# Altium integrated library Linear Technology Power Management System Supervisor, Monitor and Control.IntLib: 1611 symbols (part 91 of 100)
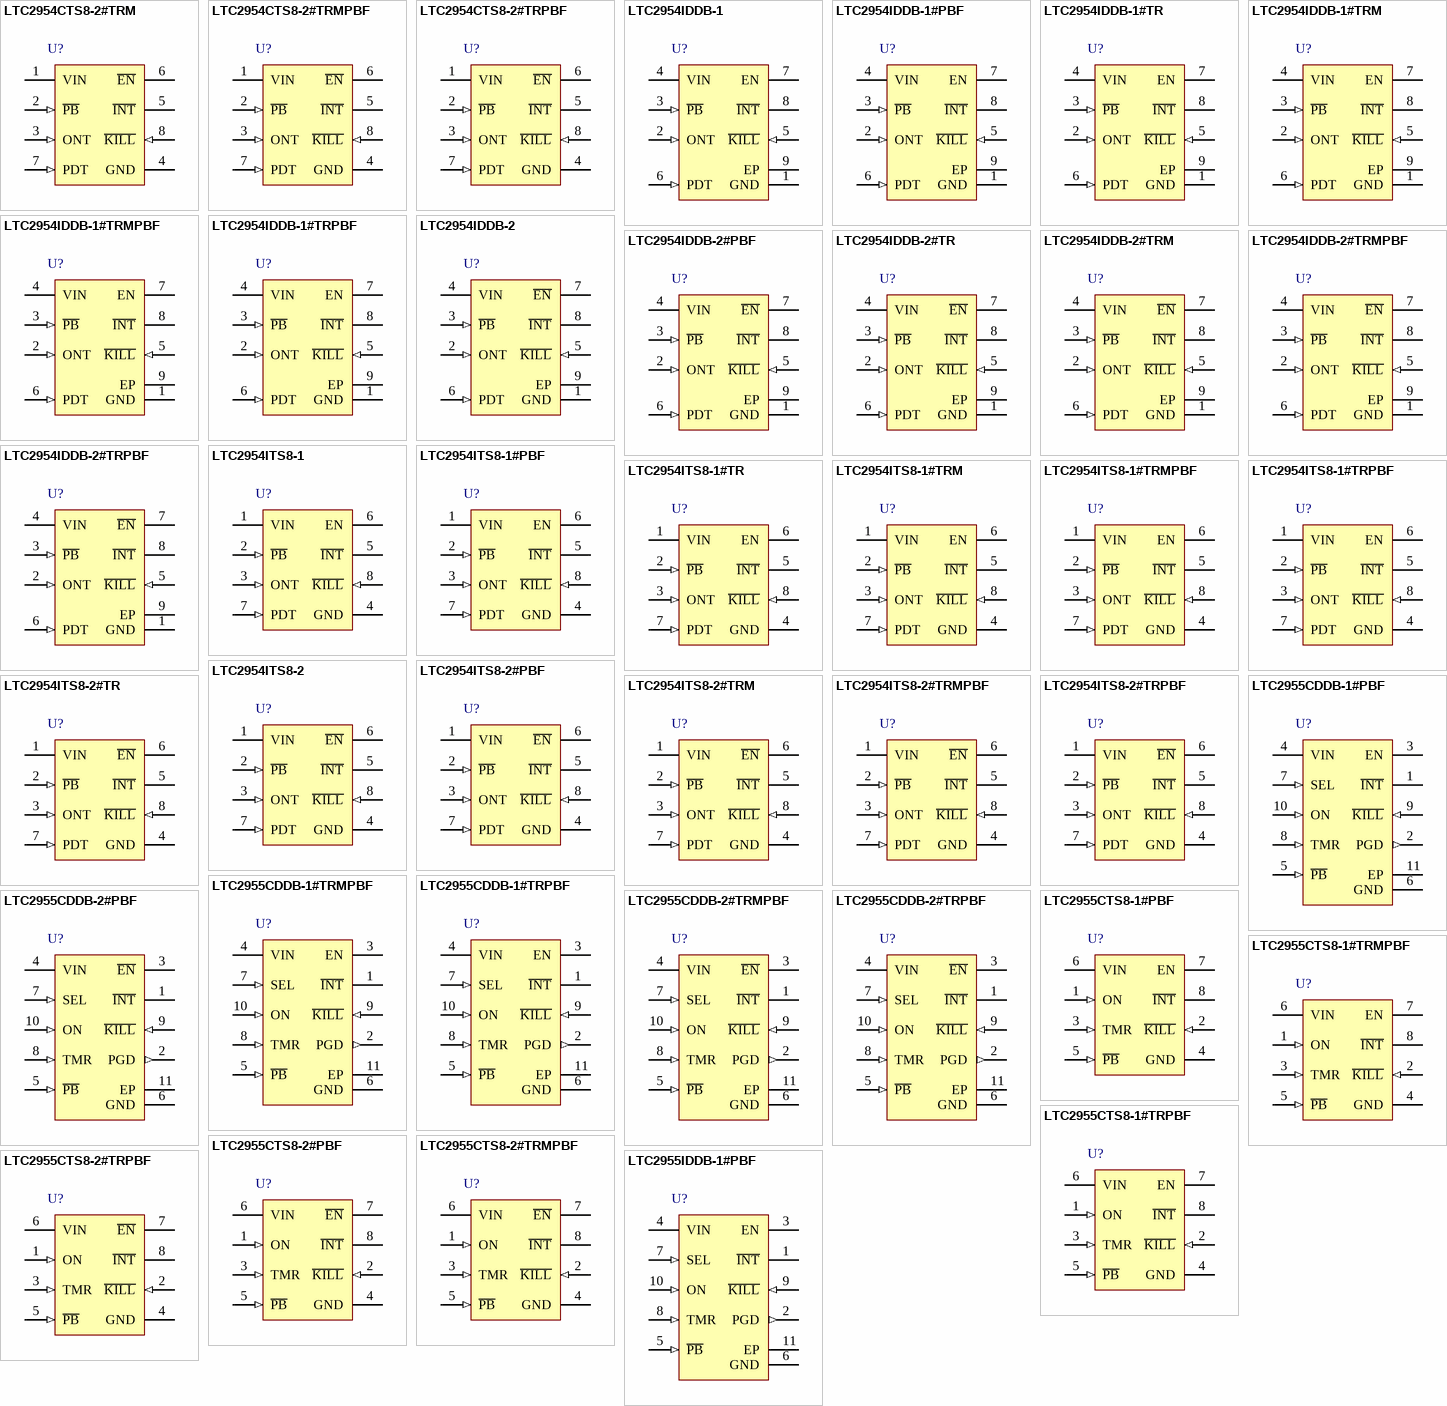
[diagram p135: symbols LTC2954CTS8-2#TRM to LTC2955IDDB-1#PBF]

## LTC2955CTS8-2#PBF
designator U?
Pushbutton On / Off Controller with Automatic Turn-On, 8-pin SOT23 (TS8-8), 0 to 70 degC, Pb-Free; Manufacturer: Linear Technology; PartNumber: LTC2955CTS8-2#PBF; Number of Supplies(#): 1; PackageVersion: Rev. A, 08/2010; PackageReference: TS8-8; PackageDescription: 8-Pin Plastic TSOT-23, Body 2.9 x 1.63 mm, Pitch 0.65 mm; RoHS: TRUE; Mounting Technology: Surface Mount; Code_JEDEC: MO-193; ComponentLink1Description: Manufacturer URL; ComponentLink1URL: http://www.linear.com/; ComponentLink2Description: Datasheet; ComponentLink2URL: http://cds.linear.com/docs/en/datasheet/2955f.pdf; ComponentLink3Description: Package Specification; ComponentLink3URL: http://cds.linear.com/docs/en/packaging/SOT_8_05-08-1637.pdf
footprint LT-TS8-8-TSOT-23_V (SOT23, 8-Leads, Body 2.9x1.75mm, Pitch 0.65mm)
pins: 1 ON (in) "Monitor Input. Connect this pin to an external resistive divider from the monitored voltage. This allows automatic system turn-on when the monitored voltage transitions high. For the DFN part, if the SEL pin is tied high, it (See Datasheet)", 2 ~{KILL} (in) "Kill Input. A low at K\I\L\L\ releases the enable output (EN/E\N\). This pin can be driven by the microprocessor or it can be used as a voltage monitor input. Tie to the system power supply or an external voltage of 1.2V~5V (See Datasheet)", 3 TMR (in) "Timer Pin. A capacitor to ground determines the additional time (5.2 seconds/uF) beyond the default 64ms that the pushbutton must be held low before immediately releasing the EN/E\N\ and I\N\T\ outputs. The turn-off debounce (See Datasheet)", 4 GND (power) "Device Ground.", 5 ~{PB} (in) "Pushbutton Input. This is an active low input with a 900k pull-up to an internal LDO. Connect one terminal of the pushbutton to this pin and connect the other terminal of the pushbutton to GND. The pin may be left open if (See Datasheet)", 6 VIN (power) "Power Supply Input. For > 20V applications, connect VIN to the power source through a 1k resistor and bypass VIN to GND with a 10nF low ESR capacitor.", 7 ~{EN} (oc) "Inverted Enable Output (LTC2955-2). E\N\ is an active low output to control the turn-on/off of the system power. It may drive a voltage regulator's active low enable input, or it may drive the gate of a P-channel MOSFET(See Datasheet)", 8 ~{INT} (oc) "Open Drain Interrupt Output. Connect this pin to the interrupt input of the system with a pull-up resistor to the system supply. The LTC2955 asserts the I\N\T\ pin low when it receives the turn-off command from the (See Datasheet)"

## LTC2955CTS8-2#TRMPBF
designator U?
Pushbutton On / Off Controller with Automatic Turn-On, 8-pin SOT23 (TS8-8), 0 to 70 degC, Pb-Free, Mini Tape and Reel; Manufacturer: Linear Technology; PartNumber: LTC2955CTS8-2#TRMPBF; Number of Supplies(#): 1; PackageVersion: Rev. A, 08/2010; PackageReference: TS8-8; PackageDescription: 8-Pin Plastic TSOT-23, Body 2.9 x 1.63 mm, Pitch 0.65 mm; Supplier 1: Digi-Key; Supplier Part Number 1: LTC2955CTS8-2#TRMPBFTR-ND; Supplier 2: Digi-Key; Supplier Part Number 2: LTC2955CTS8-2#TRMPBFCT-ND; Supplier 3: Digi-Key; Supplier Part Number 3: LTC2955CTS8-2#TRMPBFDKR-ND; Supplier 4: Farnell; Supplier Part Number 4: 2097940; Supplier 5: Newark; Supplier Part Number 5: 93T2008; Packing: Mini Tape and Reel; RoHS: TRUE; Mounting Technology: Surface Mount; Code_JEDEC: MO-193; ComponentLink1Description: Manufacturer URL; ComponentLink1URL: http://www.linear.com/; ComponentLink2Description: Datasheet; ComponentLink2URL: http://cds.linear.com/docs/en/datasheet/2955f.pdf; ComponentLink3Description: Package Specification; ComponentLink3URL: http://cds.linear.com/docs/en/packaging/SOT_8_05-08-1637.pdf
footprint LT-TS8-8-TSOT-23_V (SOT23, 8-Leads, Body 2.9x1.75mm, Pitch 0.65mm)
pins: 1 ON (in) "Monitor Input. Connect this pin to an external resistive divider from the monitored voltage. This allows automatic system turn-on when the monitored voltage transitions high. For the DFN part, if the SEL pin is tied high, it (See Datasheet)", 2 ~{KILL} (in) "Kill Input. A low at K\I\L\L\ releases the enable output (EN/E\N\). This pin can be driven by the microprocessor or it can be used as a voltage monitor input. Tie to the system power supply or an external voltage of 1.2V~5V (See Datasheet)", 3 TMR (in) "Timer Pin. A capacitor to ground determines the additional time (5.2 seconds/uF) beyond the default 64ms that the pushbutton must be held low before immediately releasing the EN/E\N\ and I\N\T\ outputs. The turn-off debounce (See Datasheet)", 4 GND (power) "Device Ground.", 5 ~{PB} (in) "Pushbutton Input. This is an active low input with a 900k pull-up to an internal LDO. Connect one terminal of the pushbutton to this pin and connect the other terminal of the pushbutton to GND. The pin may be left open if (See Datasheet)", 6 VIN (power) "Power Supply Input. For > 20V applications, connect VIN to the power source through a 1k resistor and bypass VIN to GND with a 10nF low ESR capacitor.", 7 ~{EN} (oc) "Inverted Enable Output (LTC2955-2). E\N\ is an active low output to control the turn-on/off of the system power. It may drive a voltage regulator's active low enable input, or it may drive the gate of a P-channel MOSFET(See Datasheet)", 8 ~{INT} (oc) "Open Drain Interrupt Output. Connect this pin to the interrupt input of the system with a pull-up resistor to the system supply. The LTC2955 asserts the I\N\T\ pin low when it receives the turn-off command from the (See Datasheet)"

## LTC2955CTS8-2#TRPBF
designator U?
Pushbutton On / Off Controller with Automatic Turn-On, 8-pin SOT23 (TS8-8), 0 to 70 degC, Pb-Free, Tape and Reel; Manufacturer: Linear Technology; PartNumber: LTC2955CTS8-2#TRPBF; Number of Supplies(#): 1; PackageVersion: Rev. A, 08/2010; PackageReference: TS8-8; PackageDescription: 8-Pin Plastic TSOT-23, Body 2.9 x 1.63 mm, Pitch 0.65 mm; Supplier 1: Digi-Key; Supplier Part Number 1: LTC2955CTS8-2#TRPBF-ND; Supplier 2: Newark; Supplier Part Number 2: 87T0995; Packing: Tape and Reel; RoHS: TRUE; Mounting Technology: Surface Mount; Code_JEDEC: MO-193; ComponentLink1Description: Manufacturer URL; ComponentLink1URL: http://www.linear.com/; ComponentLink2Description: Datasheet; ComponentLink2URL: http://cds.linear.com/docs/en/datasheet/2955f.pdf; ComponentLink3Description: Package Specification; ComponentLink3URL: http://cds.linear.com/docs/en/packaging/SOT_8_05-08-1637.pdf
footprint LT-TS8-8-TSOT-23_V (SOT23, 8-Leads, Body 2.9x1.75mm, Pitch 0.65mm)
pins: 1 ON (in) "Monitor Input. Connect this pin to an external resistive divider from the monitored voltage. This allows automatic system turn-on when the monitored voltage transitions high. For the DFN part, if the SEL pin is tied high, it (See Datasheet)", 2 ~{KILL} (in) "Kill Input. A low at K\I\L\L\ releases the enable output (EN/E\N\). This pin can be driven by the microprocessor or it can be used as a voltage monitor input. Tie to the system power supply or an external voltage of 1.2V~5V (See Datasheet)", 3 TMR (in) "Timer Pin. A capacitor to ground determines the additional time (5.2 seconds/uF) beyond the default 64ms that the pushbutton must be held low before immediately releasing the EN/E\N\ and I\N\T\ outputs. The turn-off debounce (See Datasheet)", 4 GND (power) "Device Ground.", 5 ~{PB} (in) "Pushbutton Input. This is an active low input with a 900k pull-up to an internal LDO. Connect one terminal of the pushbutton to this pin and connect the other terminal of the pushbutton to GND. The pin may be left open if (See Datasheet)", 6 VIN (power) "Power Supply Input. For > 20V applications, connect VIN to the power source through a 1k resistor and bypass VIN to GND with a 10nF low ESR capacitor.", 7 ~{EN} (oc) "Inverted Enable Output (LTC2955-2). E\N\ is an active low output to control the turn-on/off of the system power. It may drive a voltage regulator's active low enable input, or it may drive the gate of a P-channel MOSFET(See Datasheet)", 8 ~{INT} (oc) "Open Drain Interrupt Output. Connect this pin to the interrupt input of the system with a pull-up resistor to the system supply. The LTC2955 asserts the I\N\T\ pin low when it receives the turn-off command from the (See Datasheet)"

## LTC2955IDDB-1#PBF
designator U?
Pushbutton On / Off Controller with Automatic Turn-On, 10-pin SON (DDB10), -40 to 85 degC, Pb-Free; Manufacturer: Linear Technology; PartNumber: LTC2955IDDB-1#PBF; Number of Supplies(#): 1; PackageVersion: Rev. Ø, 06/2010; PackageReference: DDB10; PackageDescription: 10-Pin Plastic DFN, Body 3 x 2 mm, Pitch 0.5 mm; RoHS: TRUE; Mounting Technology: Surface Mount; Code_JEDEC: MO-229; ComponentLink1Description: Manufacturer URL; ComponentLink1URL: http://www.linear.com/; ComponentLink2Description: Datasheet; ComponentLink2URL: http://cds.linear.com/docs/en/datasheet/2955f.pdf; ComponentLink3Description: Package Specification; ComponentLink3URL: http://cds.linear.com/docs/en/packaging/DFN_10_05-08-1722.pdf
footprint LT-DDB-10_V (SON, 10-Leads, Body 3x2mm, Pitch 0.5mm, Thermal Pad 2.39x0.64mm)
pins: 1 ~{INT} (oc) "Open Drain Interrupt Output. Connect this pin to the interrupt input of the system with a pull-up resistor to the system supply. The LTC2955 asserts the I\N\T\ pin low when it receives the turn-off command from the (See Datasheet)", 2 PGD (out) "ON Status Output. A high on this pin indicates that the voltage at the ON pin is above the input threshold of 0.8V. This pin can be used as a system input to inform the system whether the turn-on was triggered by the ON pin (See Datasheet)", 3 EN (oc) "Enable Output (LTC2955-1). EN is an active high output to control the turn-on/off of the system power. Connect this pin to the RUN or S\H\U\T\D\O\W\N\ pin of the voltage regulator. The LTC2955 asserts EN high when the (See Datasheet)", 4 VIN (power) "Power Supply Input. For > 20V applications, connect VIN to the power source through a 1k resistor and bypass VIN to GND with a 10nF low ESR capacitor.", 5 ~{PB} (in) "Pushbutton Input. This is an active low input with a 900k pull-up to an internal LDO. Connect one terminal of the pushbutton to this pin and connect the other terminal of the pushbutton to GND. The pin may be left open if (See Datasheet)", 6 GND (power) "Device Ground.", 7 SEL (in) "Mode Select Input. Connect SEL to GND to block the ON pin falling edge from activating system turn-off. Connect SEL to VIN to allow both the ON pin rising and falling edges to activate system turn-on and turn-off (See Datasheet)", 8 TMR (in) "Timer Pin. A capacitor to ground determines the additional time (5.2 seconds/uF) beyond the default 64ms that the pushbutton must be held low before immediately releasing the EN/E\N\ and I\N\T\ outputs. The turn-off debounce (See Datasheet)", 9 ~{KILL} (in) "Kill Input. A low at K\I\L\L\ releases the enable output (EN/E\N\). This pin can be driven by the microprocessor or it can be used as a voltage monitor input. Tie to the system power supply or an external voltage of 1.2V~5V (See Datasheet)", 10 ON (in) "Monitor Input. Connect this pin to an external resistive divider from the monitored voltage. This allows automatic system turn-on when the monitored voltage transitions high. For the DFN part, if the SEL pin is tied high, it (See Datasheet)", 11 EP (power) "Exposed pad. Leave open or connect to device ground."

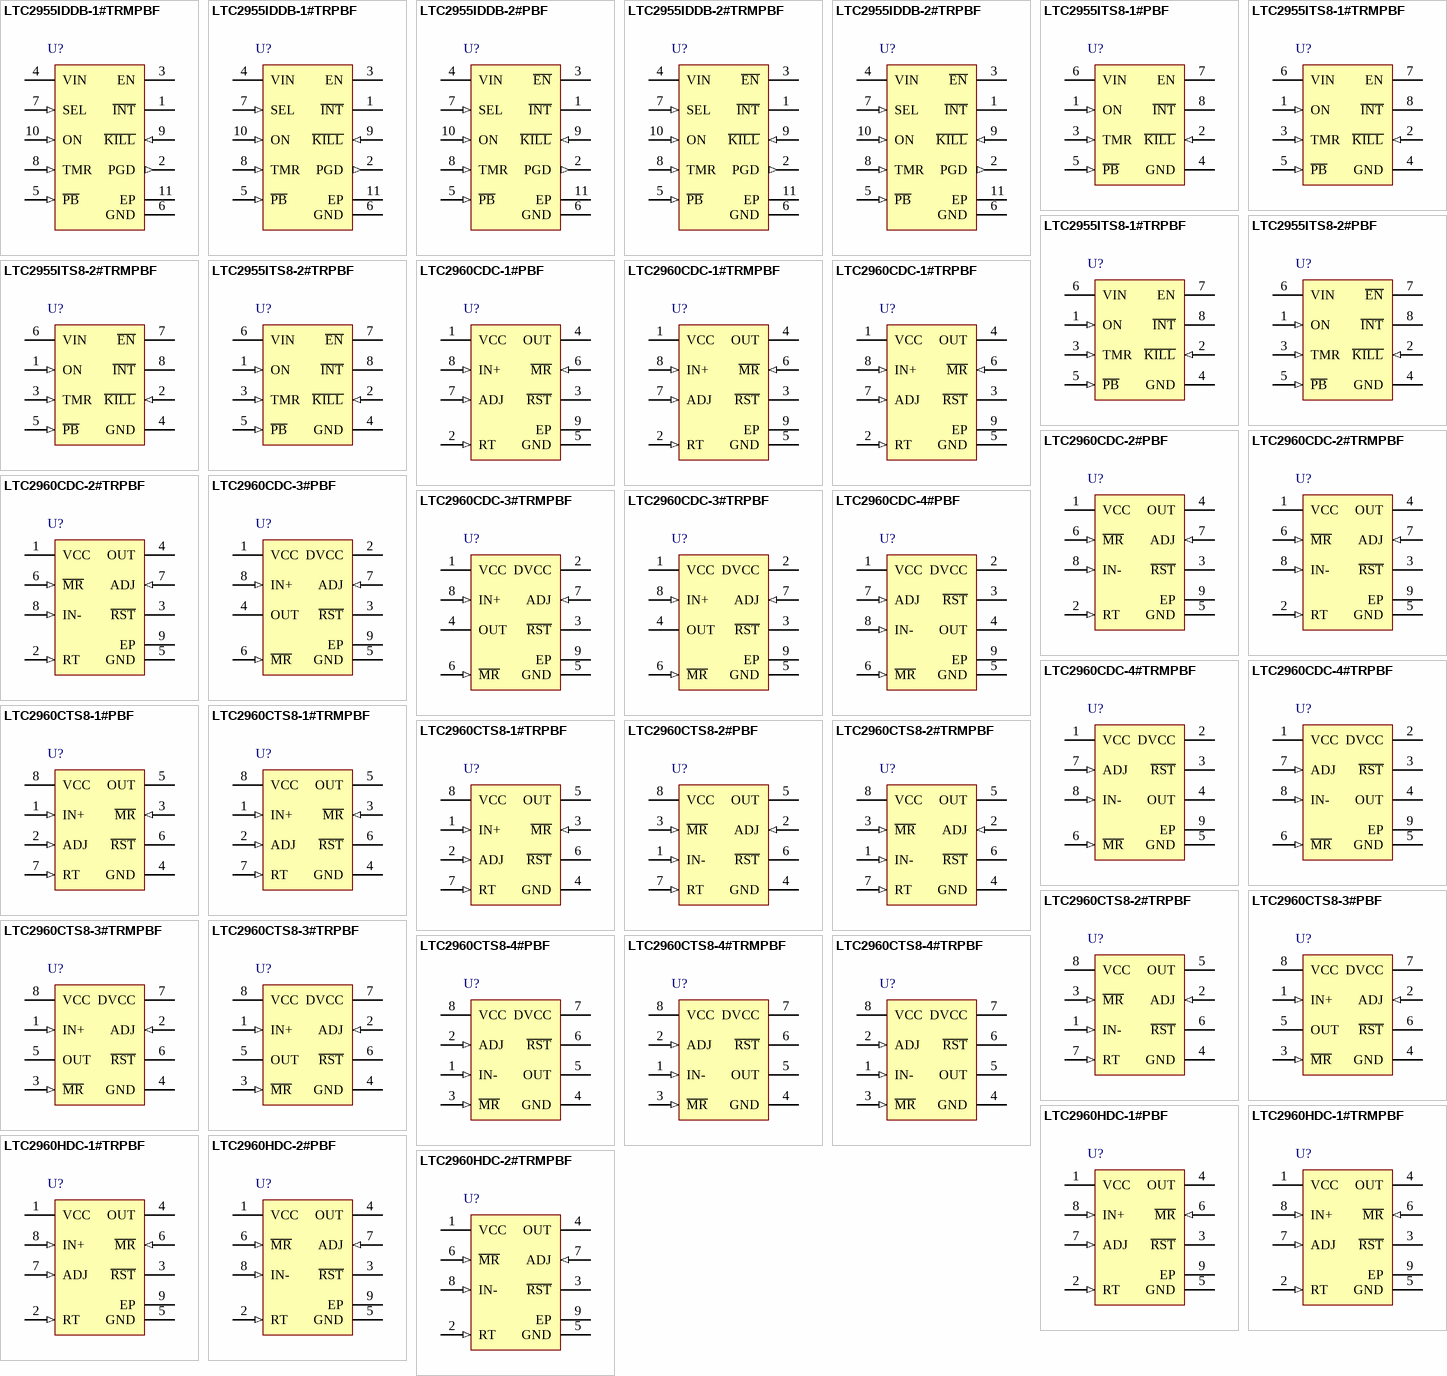
[diagram p40: symbols LTC2955IDDB-1#TRMPBF to LTC2960HDC-2#TRMPBF]

## LTC2955IDDB-1#TRMPBF
designator U?
Pushbutton On / Off Controller with Automatic Turn-On, 10-pin SON (DDB10), -40 to 85 degC, Pb-Free, Mini Tape and Reel; Manufacturer: Linear Technology; PartNumber: LTC2955IDDB-1#TRMPBF; Number of Supplies(#): 1; PackageVersion: Rev. Ø, 06/2010; PackageReference: DDB10; PackageDescription: 10-Pin Plastic DFN, Body 3 x 2 mm, Pitch 0.5 mm; Supplier 1: Digi-Key; Supplier Part Number 1: LTC2955IDDB-1#TRMPBFTR-ND; Supplier 2: Digi-Key; Supplier Part Number 2: LTC2955IDDB-1#TRMPBFCT-ND; Supplier 3: Digi-Key; Supplier Part Number 3: LTC2955IDDB-1#TRMPBFDKR-ND; Supplier 4: Farnell; Supplier Part Number 4: 2097937; Supplier 5: Newark; Supplier Part Number 5: 93T2009; Supplier 6: Newark; Supplier Part Number 6: 87T0996; Packing: Mini Tape and Reel; RoHS: TRUE; Mounting Technology: Surface Mount; Code_JEDEC: MO-229; ComponentLink1Description: Manufacturer URL; ComponentLink1URL: http://www.linear.com/; ComponentLink2Description: Datasheet; ComponentLink2URL: http://cds.linear.com/docs/en/datasheet/2955f.pdf; ComponentLink3Description: Package Specification; ComponentLink3URL: http://cds.linear.com/docs/en/packaging/DFN_10_05-08-1722.pdf
footprint LT-DDB-10_V (SON, 10-Leads, Body 3x2mm, Pitch 0.5mm, Thermal Pad 2.39x0.64mm)
pins: 1 ~{INT} (oc) "Open Drain Interrupt Output. Connect this pin to the interrupt input of the system with a pull-up resistor to the system supply. The LTC2955 asserts the I\N\T\ pin low when it receives the turn-off command from the (See Datasheet)", 2 PGD (out) "ON Status Output. A high on this pin indicates that the voltage at the ON pin is above the input threshold of 0.8V. This pin can be used as a system input to inform the system whether the turn-on was triggered by the ON pin (See Datasheet)", 3 EN (oc) "Enable Output (LTC2955-1). EN is an active high output to control the turn-on/off of the system power. Connect this pin to the RUN or S\H\U\T\D\O\W\N\ pin of the voltage regulator. The LTC2955 asserts EN high when the (See Datasheet)", 4 VIN (power) "Power Supply Input. For > 20V applications, connect VIN to the power source through a 1k resistor and bypass VIN to GND with a 10nF low ESR capacitor.", 5 ~{PB} (in) "Pushbutton Input. This is an active low input with a 900k pull-up to an internal LDO. Connect one terminal of the pushbutton to this pin and connect the other terminal of the pushbutton to GND. The pin may be left open if (See Datasheet)", 6 GND (power) "Device Ground.", 7 SEL (in) "Mode Select Input. Connect SEL to GND to block the ON pin falling edge from activating system turn-off. Connect SEL to VIN to allow both the ON pin rising and falling edges to activate system turn-on and turn-off (See Datasheet)", 8 TMR (in) "Timer Pin. A capacitor to ground determines the additional time (5.2 seconds/uF) beyond the default 64ms that the pushbutton must be held low before immediately releasing the EN/E\N\ and I\N\T\ outputs. The turn-off debounce (See Datasheet)", 9 ~{KILL} (in) "Kill Input. A low at K\I\L\L\ releases the enable output (EN/E\N\). This pin can be driven by the microprocessor or it can be used as a voltage monitor input. Tie to the system power supply or an external voltage of 1.2V~5V (See Datasheet)", 10 ON (in) "Monitor Input. Connect this pin to an external resistive divider from the monitored voltage. This allows automatic system turn-on when the monitored voltage transitions high. For the DFN part, if the SEL pin is tied high, it (See Datasheet)", 11 EP (power) "Exposed pad. Leave open or connect to device ground."

## LTC2955IDDB-1#TRPBF
designator U?
Pushbutton On / Off Controller with Automatic Turn-On, 10-pin SON (DDB10), -40 to 85 degC, Pb-Free, Tape and Reel; Manufacturer: Linear Technology; PartNumber: LTC2955IDDB-1#TRPBF; Number of Supplies(#): 1; PackageVersion: Rev. Ø, 06/2010; PackageReference: DDB10; PackageDescription: 10-Pin Plastic DFN, Body 3 x 2 mm, Pitch 0.5 mm; Supplier 1: Digi-Key; Supplier Part Number 1: LTC2955IDDB-1#TRPBF-ND; Packing: Tape and Reel; RoHS: TRUE; Mounting Technology: Surface Mount; Code_JEDEC: MO-229; ComponentLink1Description: Manufacturer URL; ComponentLink1URL: http://www.linear.com/; ComponentLink2Description: Datasheet; ComponentLink2URL: http://cds.linear.com/docs/en/datasheet/2955f.pdf; ComponentLink3Description: Package Specification; ComponentLink3URL: http://cds.linear.com/docs/en/packaging/DFN_10_05-08-1722.pdf
footprint LT-DDB-10_V (SON, 10-Leads, Body 3x2mm, Pitch 0.5mm, Thermal Pad 2.39x0.64mm)
pins: 1 ~{INT} (oc) "Open Drain Interrupt Output. Connect this pin to the interrupt input of the system with a pull-up resistor to the system supply. The LTC2955 asserts the I\N\T\ pin low when it receives the turn-off command from the (See Datasheet)", 2 PGD (out) "ON Status Output. A high on this pin indicates that the voltage at the ON pin is above the input threshold of 0.8V. This pin can be used as a system input to inform the system whether the turn-on was triggered by the ON pin (See Datasheet)", 3 EN (oc) "Enable Output (LTC2955-1). EN is an active high output to control the turn-on/off of the system power. Connect this pin to the RUN or S\H\U\T\D\O\W\N\ pin of the voltage regulator. The LTC2955 asserts EN high when the (See Datasheet)", 4 VIN (power) "Power Supply Input. For > 20V applications, connect VIN to the power source through a 1k resistor and bypass VIN to GND with a 10nF low ESR capacitor.", 5 ~{PB} (in) "Pushbutton Input. This is an active low input with a 900k pull-up to an internal LDO. Connect one terminal of the pushbutton to this pin and connect the other terminal of the pushbutton to GND. The pin may be left open if (See Datasheet)", 6 GND (power) "Device Ground.", 7 SEL (in) "Mode Select Input. Connect SEL to GND to block the ON pin falling edge from activating system turn-off. Connect SEL to VIN to allow both the ON pin rising and falling edges to activate system turn-on and turn-off (See Datasheet)", 8 TMR (in) "Timer Pin. A capacitor to ground determines the additional time (5.2 seconds/uF) beyond the default 64ms that the pushbutton must be held low before immediately releasing the EN/E\N\ and I\N\T\ outputs. The turn-off debounce (See Datasheet)", 9 ~{KILL} (in) "Kill Input. A low at K\I\L\L\ releases the enable output (EN/E\N\). This pin can be driven by the microprocessor or it can be used as a voltage monitor input. Tie to the system power supply or an external voltage of 1.2V~5V (See Datasheet)", 10 ON (in) "Monitor Input. Connect this pin to an external resistive divider from the monitored voltage. This allows automatic system turn-on when the monitored voltage transitions high. For the DFN part, if the SEL pin is tied high, it (See Datasheet)", 11 EP (power) "Exposed pad. Leave open or connect to device ground."

## LTC2955IDDB-2#PBF
designator U?
Pushbutton On / Off Controller with Automatic Turn-On, 10-pin SON (DDB10), -40 to 85 degC, Pb-Free; Manufacturer: Linear Technology; PartNumber: LTC2955IDDB-2#PBF; Number of Supplies(#): 1; PackageVersion: Rev. Ø, 06/2010; PackageReference: DDB10; PackageDescription: 10-Pin Plastic DFN, Body 3 x 2 mm, Pitch 0.5 mm; RoHS: TRUE; Mounting Technology: Surface Mount; Code_JEDEC: MO-229; ComponentLink1Description: Manufacturer URL; ComponentLink1URL: http://www.linear.com/; ComponentLink2Description: Datasheet; ComponentLink2URL: http://cds.linear.com/docs/en/datasheet/2955f.pdf; ComponentLink3Description: Package Specification; ComponentLink3URL: http://cds.linear.com/docs/en/packaging/DFN_10_05-08-1722.pdf
footprint LT-DDB-10_V (SON, 10-Leads, Body 3x2mm, Pitch 0.5mm, Thermal Pad 2.39x0.64mm)
pins: 1 ~{INT} (oc) "Open Drain Interrupt Output. Connect this pin to the interrupt input of the system with a pull-up resistor to the system supply. The LTC2955 asserts the I\N\T\ pin low when it receives the turn-off command from the (See Datasheet)", 2 PGD (out) "ON Status Output. A high on this pin indicates that the voltage at the ON pin is above the input threshold of 0.8V. This pin can be used as a system input to inform the system whether the turn-on was triggered by the ON pin (See Datasheet)", 3 ~{EN} (oc) "Inverted Enable Output (LTC2955-2). E\N\ is an active low output to control the turn-on/off of the system power. It may drive a voltage regulator's active low enable input, or it may drive the gate of a P-channel MOSFET(See Datasheet)", 4 VIN (power) "Power Supply Input. For > 20V applications, connect VIN to the power source through a 1k resistor and bypass VIN to GND with a 10nF low ESR capacitor.", 5 ~{PB} (in) "Pushbutton Input. This is an active low input with a 900k pull-up to an internal LDO. Connect one terminal of the pushbutton to this pin and connect the other terminal of the pushbutton to GND. The pin may be left open if (See Datasheet)", 6 GND (power) "Device Ground.", 7 SEL (in) "Mode Select Input. Connect SEL to GND to block the ON pin falling edge from activating system turn-off. Connect SEL to VIN to allow both the ON pin rising and falling edges to activate system turn-on and turn-off (See Datasheet)", 8 TMR (in) "Timer Pin. A capacitor to ground determines the additional time (5.2 seconds/uF) beyond the default 64ms that the pushbutton must be held low before immediately releasing the EN/E\N\ and I\N\T\ outputs. The turn-off debounce (See Datasheet)", 9 ~{KILL} (in) "Kill Input. A low at K\I\L\L\ releases the enable output (EN/E\N\). This pin can be driven by the microprocessor or it can be used as a voltage monitor input. Tie to the system power supply or an external voltage of 1.2V~5V (See Datasheet)", 10 ON (in) "Monitor Input. Connect this pin to an external resistive divider from the monitored voltage. This allows automatic system turn-on when the monitored voltage transitions high. For the DFN part, if the SEL pin is tied high, it (See Datasheet)", 11 EP (power) "Exposed pad. Leave open or connect to device ground."

## LTC2955IDDB-2#TRMPBF
designator U?
Pushbutton On / Off Controller with Automatic Turn-On, 10-pin SON (DDB10), -40 to 85 degC, Pb-Free, Mini Tape and Reel; Manufacturer: Linear Technology; PartNumber: LTC2955IDDB-2#TRMPBF; Number of Supplies(#): 1; PackageVersion: Rev. Ø, 06/2010; PackageReference: DDB10; PackageDescription: 10-Pin Plastic DFN, Body 3 x 2 mm, Pitch 0.5 mm; Supplier 1: Digi-Key; Supplier Part Number 1: LTC2955IDDB-2#TRMPBFTR-ND; Supplier 2: Digi-Key; Supplier Part Number 2: LTC2955IDDB-2#TRMPBFCT-ND; Supplier 3: Digi-Key; Supplier Part Number 3: LTC2955IDDB-2#TRMPBFDKR-ND; Supplier 4: Farnell; Supplier Part Number 4: 2097938; Supplier 5: Newark; Supplier Part Number 5: 93T2010; Packing: Mini Tape and Reel; RoHS: TRUE; Mounting Technology: Surface Mount; Code_JEDEC: MO-229; ComponentLink1Description: Manufacturer URL; ComponentLink1URL: http://www.linear.com/; ComponentLink2Description: Datasheet; ComponentLink2URL: http://cds.linear.com/docs/en/datasheet/2955f.pdf; ComponentLink3Description: Package Specification; ComponentLink3URL: http://cds.linear.com/docs/en/packaging/DFN_10_05-08-1722.pdf
footprint LT-DDB-10_V (SON, 10-Leads, Body 3x2mm, Pitch 0.5mm, Thermal Pad 2.39x0.64mm)
pins: 1 ~{INT} (oc) "Open Drain Interrupt Output. Connect this pin to the interrupt input of the system with a pull-up resistor to the system supply. The LTC2955 asserts the I\N\T\ pin low when it receives the turn-off command from the (See Datasheet)", 2 PGD (out) "ON Status Output. A high on this pin indicates that the voltage at the ON pin is above the input threshold of 0.8V. This pin can be used as a system input to inform the system whether the turn-on was triggered by the ON pin (See Datasheet)", 3 ~{EN} (oc) "Inverted Enable Output (LTC2955-2). E\N\ is an active low output to control the turn-on/off of the system power. It may drive a voltage regulator's active low enable input, or it may drive the gate of a P-channel MOSFET(See Datasheet)", 4 VIN (power) "Power Supply Input. For > 20V applications, connect VIN to the power source through a 1k resistor and bypass VIN to GND with a 10nF low ESR capacitor.", 5 ~{PB} (in) "Pushbutton Input. This is an active low input with a 900k pull-up to an internal LDO. Connect one terminal of the pushbutton to this pin and connect the other terminal of the pushbutton to GND. The pin may be left open if (See Datasheet)", 6 GND (power) "Device Ground.", 7 SEL (in) "Mode Select Input. Connect SEL to GND to block the ON pin falling edge from activating system turn-off. Connect SEL to VIN to allow both the ON pin rising and falling edges to activate system turn-on and turn-off (See Datasheet)", 8 TMR (in) "Timer Pin. A capacitor to ground determines the additional time (5.2 seconds/uF) beyond the default 64ms that the pushbutton must be held low before immediately releasing the EN/E\N\ and I\N\T\ outputs. The turn-off debounce (See Datasheet)", 9 ~{KILL} (in) "Kill Input. A low at K\I\L\L\ releases the enable output (EN/E\N\). This pin can be driven by the microprocessor or it can be used as a voltage monitor input. Tie to the system power supply or an external voltage of 1.2V~5V (See Datasheet)", 10 ON (in) "Monitor Input. Connect this pin to an external resistive divider from the monitored voltage. This allows automatic system turn-on when the monitored voltage transitions high. For the DFN part, if the SEL pin is tied high, it (See Datasheet)", 11 EP (power) "Exposed pad. Leave open or connect to device ground."

## LTC2955IDDB-2#TRPBF
designator U?
Pushbutton On / Off Controller with Automatic Turn-On, 10-pin SON (DDB-10), -40 to 85 degC, Pb-Free, Tape and Reel; Manufacturer: Linear Technology; PartNumber: LTC2955IDDB-2#TRPBF; Number of Supplies(#): 1; PackageVersion: Rev. Ø, 06/2010; PackageReference: DDB10; PackageDescription: 10-Pin Plastic DFN, Body 3 x 2 mm, Pitch 0.5 mm; Supplier 1: Digi-Key; Supplier Part Number 1: LTC2955IDDB-2#TRPBF-ND; Supplier 2: Newark; Supplier Part Number 2: 87T0999; Packing: Tape and Reel; RoHS: TRUE; Mounting Technology: Surface Mount; Code_JEDEC: MO-229; ComponentLink1Description: Manufacturer URL; ComponentLink1URL: http://www.linear.com/; ComponentLink2Description: Datasheet; ComponentLink2URL: http://cds.linear.com/docs/en/datasheet/2955f.pdf; ComponentLink3Description: Package Specification; ComponentLink3URL: http://cds.linear.com/docs/en/packaging/DFN_10_05-08-1722.pdf
footprint LT-DDB-10_V (SON, 10-Leads, Body 3x2mm, Pitch 0.5mm, Thermal Pad 2.39x0.64mm)
pins: 1 ~{INT} (oc) "Open Drain Interrupt Output. Connect this pin to the interrupt input of the system with a pull-up resistor to the system supply. The LTC2955 asserts the I\N\T\ pin low when it receives the turn-off command from the (See Datasheet)", 2 PGD (out) "ON Status Output. A high on this pin indicates that the voltage at the ON pin is above the input threshold of 0.8V. This pin can be used as a system input to inform the system whether the turn-on was triggered by the ON pin (See Datasheet)", 3 ~{EN} (oc) "Inverted Enable Output (LTC2955-2). E\N\ is an active low output to control the turn-on/off of the system power. It may drive a voltage regulator's active low enable input, or it may drive the gate of a P-channel MOSFET(See Datasheet)", 4 VIN (power) "Power Supply Input. For > 20V applications, connect VIN to the power source through a 1k resistor and bypass VIN to GND with a 10nF low ESR capacitor.", 5 ~{PB} (in) "Pushbutton Input. This is an active low input with a 900k pull-up to an internal LDO. Connect one terminal of the pushbutton to this pin and connect the other terminal of the pushbutton to GND. The pin may be left open if (See Datasheet)", 6 GND (power) "Device Ground.", 7 SEL (in) "Mode Select Input. Connect SEL to GND to block the ON pin falling edge from activating system turn-off. Connect SEL to VIN to allow both the ON pin rising and falling edges to activate system turn-on and turn-off (See Datasheet)", 8 TMR (in) "Timer Pin. A capacitor to ground determines the additional time (5.2 seconds/uF) beyond the default 64ms that the pushbutton must be held low before immediately releasing the EN/E\N\ and I\N\T\ outputs. The turn-off debounce (See Datasheet)", 9 ~{KILL} (in) "Kill Input. A low at K\I\L\L\ releases the enable output (EN/E\N\). This pin can be driven by the microprocessor or it can be used as a voltage monitor input. Tie to the system power supply or an external voltage of 1.2V~5V (See Datasheet)", 10 ON (in) "Monitor Input. Connect this pin to an external resistive divider from the monitored voltage. This allows automatic system turn-on when the monitored voltage transitions high. For the DFN part, if the SEL pin is tied high, it (See Datasheet)", 11 EP (power) "Exposed pad. Leave open or connect to device ground."

## LTC2955ITS8-1#PBF
designator U?
Pushbutton On / Off Controller with Automatic Turn-On, 8-pin SOT23 (TS8-8), -40 to 85 degC, Pb-Free; Manufacturer: Linear Technology; PartNumber: LTC2955ITS8-1#PBF; Number of Supplies(#): 1; PackageVersion: Rev. A, 08/2010; PackageReference: TS8-8; PackageDescription: 8-Pin Plastic TSOT-23, Body 2.9 x 1.63 mm, Pitch 0.65 mm; RoHS: TRUE; Mounting Technology: Surface Mount; Code_JEDEC: MO-193; ComponentLink1Description: Manufacturer URL; ComponentLink1URL: http://www.linear.com/; ComponentLink2Description: Datasheet; ComponentLink2URL: http://cds.linear.com/docs/en/datasheet/2955f.pdf; ComponentLink3Description: Package Specification; ComponentLink3URL: http://cds.linear.com/docs/en/packaging/SOT_8_05-08-1637.pdf
footprint LT-TS8-8-TSOT-23_V (SOT23, 8-Leads, Body 2.9x1.75mm, Pitch 0.65mm)
pins: 1 ON (in) "Monitor Input. Connect this pin to an external resistive divider from the monitored voltage. This allows automatic system turn-on when the monitored voltage transitions high. For the DFN part, if the SEL pin is tied high, it (See Datasheet)", 2 ~{KILL} (in) "Kill Input. A low at K\I\L\L\ releases the enable output (EN/E\N\). This pin can be driven by the microprocessor or it can be used as a voltage monitor input. Tie to the system power supply or an external voltage of 1.2V~5V (See Datasheet)", 3 TMR (in) "Timer Pin. A capacitor to ground determines the additional time (5.2 seconds/uF) beyond the default 64ms that the pushbutton must be held low before immediately releasing the EN/E\N\ and I\N\T\ outputs. The turn-off debounce (See Datasheet)", 4 GND (power) "Device Ground.", 5 ~{PB} (in) "Pushbutton Input. This is an active low input with a 900k pull-up to an internal LDO. Connect one terminal of the pushbutton to this pin and connect the other terminal of the pushbutton to GND. The pin may be left open if (See Datasheet)", 6 VIN (power) "Power Supply Input. For > 20V applications, connect VIN to the power source through a 1k resistor and bypass VIN to GND with a 10nF low ESR capacitor.", 7 EN (oc) "Enable Output (LTC2955-1). EN is an active high output to control the turn-on/off of the system power. Connect this pin to the RUN or S\H\U\T\D\O\W\N\ pin of the voltage regulator. The LTC2955 asserts EN high when the (See Datasheet)", 8 ~{INT} (oc) "Open Drain Interrupt Output. Connect this pin to the interrupt input of the system with a pull-up resistor to the system supply. The LTC2955 asserts the I\N\T\ pin low when it receives the turn-off command from the (See Datasheet)"

## LTC2955ITS8-1#TRMPBF
designator U?
Pushbutton On / Off Controller with Automatic Turn-On, 8-pin SOT23 (TS8-8), -40 to 85 degC, Pb-Free, Mini Tape and Reel; Manufacturer: Linear Technology; PartNumber: LTC2955ITS8-1#TRMPBF; Number of Supplies(#): 1; PackageVersion: Rev. A, 08/2010; PackageReference: TS8-8; PackageDescription: 8-Pin Plastic TSOT-23, Body 2.9 x 1.63 mm, Pitch 0.65 mm; Supplier 1: Digi-Key; Supplier Part Number 1: LTC2955ITS8-1#TRMPBFTR-ND; Supplier 2: Digi-Key; Supplier Part Number 2: LTC2955ITS8-1#TRMPBFCT-ND; Supplier 3: Digi-Key; Supplier Part Number 3: LTC2955ITS8-1#TRMPBFDKR-ND; Supplier 4: Farnell; Supplier Part Number 4: 2097942; Supplier 5: Newark; Supplier Part Number 5: 93T2011; Packing: Mini Tape and Reel; RoHS: TRUE; Mounting Technology: Surface Mount; Code_JEDEC: MO-193; ComponentLink1Description: Manufacturer URL; ComponentLink1URL: http://www.linear.com/; ComponentLink2Description: Datasheet; ComponentLink2URL: http://cds.linear.com/docs/en/datasheet/2955f.pdf; ComponentLink3Description: Package Specification; ComponentLink3URL: http://cds.linear.com/docs/en/packaging/SOT_8_05-08-1637.pdf
footprint LT-TS8-8-TSOT-23_V (SOT23, 8-Leads, Body 2.9x1.75mm, Pitch 0.65mm)
pins: 1 ON (in) "Monitor Input. Connect this pin to an external resistive divider from the monitored voltage. This allows automatic system turn-on when the monitored voltage transitions high. For the DFN part, if the SEL pin is tied high, it (See Datasheet)", 2 ~{KILL} (in) "Kill Input. A low at K\I\L\L\ releases the enable output (EN/E\N\). This pin can be driven by the microprocessor or it can be used as a voltage monitor input. Tie to the system power supply or an external voltage of 1.2V~5V (See Datasheet)", 3 TMR (in) "Timer Pin. A capacitor to ground determines the additional time (5.2 seconds/uF) beyond the default 64ms that the pushbutton must be held low before immediately releasing the EN/E\N\ and I\N\T\ outputs. The turn-off debounce (See Datasheet)", 4 GND (power) "Device Ground.", 5 ~{PB} (in) "Pushbutton Input. This is an active low input with a 900k pull-up to an internal LDO. Connect one terminal of the pushbutton to this pin and connect the other terminal of the pushbutton to GND. The pin may be left open if (See Datasheet)", 6 VIN (power) "Power Supply Input. For > 20V applications, connect VIN to the power source through a 1k resistor and bypass VIN to GND with a 10nF low ESR capacitor.", 7 EN (oc) "Enable Output (LTC2955-1). EN is an active high output to control the turn-on/off of the system power. Connect this pin to the RUN or S\H\U\T\D\O\W\N\ pin of the voltage regulator. The LTC2955 asserts EN high when the (See Datasheet)", 8 ~{INT} (oc) "Open Drain Interrupt Output. Connect this pin to the interrupt input of the system with a pull-up resistor to the system supply. The LTC2955 asserts the I\N\T\ pin low when it receives the turn-off command from the (See Datasheet)"

## LTC2955ITS8-1#TRPBF
designator U?
Pushbutton On / Off Controller with Automatic Turn-On, 8-pin SOT23 (TS8-8), -40 to 85 degC, Pb-Free, Tape and Reel; Manufacturer: Linear Technology; PartNumber: LTC2955ITS8-1#TRPBF; Number of Supplies(#): 1; PackageVersion: Rev. A, 08/2010; PackageReference: TS8-8; PackageDescription: 8-Pin Plastic TSOT-23, Body 2.9 x 1.63 mm, Pitch 0.65 mm; Supplier 1: Digi-Key; Supplier Part Number 1: LTC2955ITS8-1#TRPBF-ND; Packing: Tape and Reel; RoHS: TRUE; Mounting Technology: Surface Mount; Code_JEDEC: MO-193; ComponentLink1Description: Manufacturer URL; ComponentLink1URL: http://www.linear.com/; ComponentLink2Description: Datasheet; ComponentLink2URL: http://cds.linear.com/docs/en/datasheet/2955f.pdf; ComponentLink3Description: Package Specification; ComponentLink3URL: http://cds.linear.com/docs/en/packaging/SOT_8_05-08-1637.pdf
footprint LT-TS8-8-TSOT-23_V (SOT23, 8-Leads, Body 2.9x1.75mm, Pitch 0.65mm)
pins: 1 ON (in) "Monitor Input. Connect this pin to an external resistive divider from the monitored voltage. This allows automatic system turn-on when the monitored voltage transitions high. For the DFN part, if the SEL pin is tied high, it (See Datasheet)", 2 ~{KILL} (in) "Kill Input. A low at K\I\L\L\ releases the enable output (EN/E\N\). This pin can be driven by the microprocessor or it can be used as a voltage monitor input. Tie to the system power supply or an external voltage of 1.2V~5V (See Datasheet)", 3 TMR (in) "Timer Pin. A capacitor to ground determines the additional time (5.2 seconds/uF) beyond the default 64ms that the pushbutton must be held low before immediately releasing the EN/E\N\ and I\N\T\ outputs. The turn-off debounce (See Datasheet)", 4 GND (power) "Device Ground.", 5 ~{PB} (in) "Pushbutton Input. This is an active low input with a 900k pull-up to an internal LDO. Connect one terminal of the pushbutton to this pin and connect the other terminal of the pushbutton to GND. The pin may be left open if (See Datasheet)", 6 VIN (power) "Power Supply Input. For > 20V applications, connect VIN to the power source through a 1k resistor and bypass VIN to GND with a 10nF low ESR capacitor.", 7 EN (oc) "Enable Output (LTC2955-1). EN is an active high output to control the turn-on/off of the system power. Connect this pin to the RUN or S\H\U\T\D\O\W\N\ pin of the voltage regulator. The LTC2955 asserts EN high when the (See Datasheet)", 8 ~{INT} (oc) "Open Drain Interrupt Output. Connect this pin to the interrupt input of the system with a pull-up resistor to the system supply. The LTC2955 asserts the I\N\T\ pin low when it receives the turn-off command from the (See Datasheet)"

## LTC2955ITS8-2#PBF
designator U?
Pushbutton On / Off Controller with Automatic Turn-On, 8-pin SOT23 (TS8-8), -40 to 85 degC, Pb-Free; Manufacturer: Linear Technology; PartNumber: LTC2955ITS8-2#PBF; Number of Supplies(#): 1; PackageVersion: Rev. A, 08/2010; PackageReference: TS8-8; PackageDescription: 8-Pin Plastic TSOT-23, Body 2.9 x 1.63 mm, Pitch 0.65 mm; RoHS: TRUE; Mounting Technology: Surface Mount; Code_JEDEC: MO-193; ComponentLink1Description: Manufacturer URL; ComponentLink1URL: http://www.linear.com/; ComponentLink2Description: Datasheet; ComponentLink2URL: http://cds.linear.com/docs/en/datasheet/2955f.pdf; ComponentLink3Description: Package Specification; ComponentLink3URL: http://cds.linear.com/docs/en/packaging/SOT_8_05-08-1637.pdf
footprint LT-TS8-8-TSOT-23_V (SOT23, 8-Leads, Body 2.9x1.75mm, Pitch 0.65mm)
pins: 1 ON (in) "Monitor Input. Connect this pin to an external resistive divider from the monitored voltage. This allows automatic system turn-on when the monitored voltage transitions high. For the DFN part, if the SEL pin is tied high, it (See Datasheet)", 2 ~{KILL} (in) "Kill Input. A low at K\I\L\L\ releases the enable output (EN/E\N\). This pin can be driven by the microprocessor or it can be used as a voltage monitor input. Tie to the system power supply or an external voltage of 1.2V~5V (See Datasheet)", 3 TMR (in) "Timer Pin. A capacitor to ground determines the additional time (5.2 seconds/uF) beyond the default 64ms that the pushbutton must be held low before immediately releasing the EN/E\N\ and I\N\T\ outputs. The turn-off debounce (See Datasheet)", 4 GND (power) "Device Ground.", 5 ~{PB} (in) "Pushbutton Input. This is an active low input with a 900k pull-up to an internal LDO. Connect one terminal of the pushbutton to this pin and connect the other terminal of the pushbutton to GND. The pin may be left open if (See Datasheet)", 6 VIN (power) "Power Supply Input. For > 20V applications, connect VIN to the power source through a 1k resistor and bypass VIN to GND with a 10nF low ESR capacitor.", 7 ~{EN} (oc) "Inverted Enable Output (LTC2955-2). E\N\ is an active low output to control the turn-on/off of the system power. It may drive a voltage regulator's active low enable input, or it may drive the gate of a P-channel MOSFET(See Datasheet)", 8 ~{INT} (oc) "Open Drain Interrupt Output. Connect this pin to the interrupt input of the system with a pull-up resistor to the system supply. The LTC2955 asserts the I\N\T\ pin low when it receives the turn-off command from the (See Datasheet)"

## LTC2955ITS8-2#TRMPBF
designator U?
Pushbutton On / Off Controller with Automatic Turn-On, 8-pin SOT23 (TS8-8), -40 to 85 degC, Pb-Free, Mini Tape and Reel; Manufacturer: Linear Technology; PartNumber: LTC2955ITS8-2#TRMPBF; Number of Supplies(#): 1; PackageVersion: Rev. A, 08/2010; PackageReference: TS8-8; PackageDescription: 8-Pin Plastic TSOT-23, Body 2.9 x 1.63 mm, Pitch 0.65 mm; Supplier 1: Digi-Key; Supplier Part Number 1: LTC2955ITS8-2#TRMPBFTR-ND; Supplier 2: Digi-Key; Supplier Part Number 2: LTC2955ITS8-2#TRMPBFCT-ND; Supplier 3: Digi-Key; Supplier Part Number 3: LTC2955ITS8-2#TRMPBFDKR-ND; Supplier 4: Farnell; Supplier Part Number 4: 2097943; Supplier 5: Newark; Supplier Part Number 5: 93T2012; Supplier 6: Newark; Supplier Part Number 6: 87T1002; Packing: Mini Tape and Reel; RoHS: TRUE; Mounting Technology: Surface Mount; Code_JEDEC: MO-193; ComponentLink1Description: Manufacturer URL; ComponentLink1URL: http://www.linear.com/; ComponentLink2Description: Datasheet; ComponentLink2URL: http://cds.linear.com/docs/en/datasheet/2955f.pdf; ComponentLink3Description: Package Specification; ComponentLink3URL: http://cds.linear.com/docs/en/packaging/SOT_8_05-08-1637.pdf
footprint LT-TS8-8-TSOT-23_V (SOT23, 8-Leads, Body 2.9x1.75mm, Pitch 0.65mm)
pins: 1 ON (in) "Monitor Input. Connect this pin to an external resistive divider from the monitored voltage. This allows automatic system turn-on when the monitored voltage transitions high. For the DFN part, if the SEL pin is tied high, it (See Datasheet)", 2 ~{KILL} (in) "Kill Input. A low at K\I\L\L\ releases the enable output (EN/E\N\). This pin can be driven by the microprocessor or it can be used as a voltage monitor input. Tie to the system power supply or an external voltage of 1.2V~5V (See Datasheet)", 3 TMR (in) "Timer Pin. A capacitor to ground determines the additional time (5.2 seconds/uF) beyond the default 64ms that the pushbutton must be held low before immediately releasing the EN/E\N\ and I\N\T\ outputs. The turn-off debounce (See Datasheet)", 4 GND (power) "Device Ground.", 5 ~{PB} (in) "Pushbutton Input. This is an active low input with a 900k pull-up to an internal LDO. Connect one terminal of the pushbutton to this pin and connect the other terminal of the pushbutton to GND. The pin may be left open if (See Datasheet)", 6 VIN (power) "Power Supply Input. For > 20V applications, connect VIN to the power source through a 1k resistor and bypass VIN to GND with a 10nF low ESR capacitor.", 7 ~{EN} (oc) "Inverted Enable Output (LTC2955-2). E\N\ is an active low output to control the turn-on/off of the system power. It may drive a voltage regulator's active low enable input, or it may drive the gate of a P-channel MOSFET(See Datasheet)", 8 ~{INT} (oc) "Open Drain Interrupt Output. Connect this pin to the interrupt input of the system with a pull-up resistor to the system supply. The LTC2955 asserts the I\N\T\ pin low when it receives the turn-off command from the (See Datasheet)"

## LTC2955ITS8-2#TRPBF
designator U?
Pushbutton On / Off Controller with Automatic Turn-On, 8-pin SOT23 (TS8-8), -40 to 85 degC, Pb-Free, Tape and Reel; Manufacturer: Linear Technology; PartNumber: LTC2955ITS8-2#TRPBF; Number of Supplies(#): 1; PackageVersion: Rev. A, 08/2010; PackageReference: TS8-8; PackageDescription: 8-Pin Plastic TSOT-23, Body 2.9 x 1.63 mm, Pitch 0.65 mm; Supplier 1: Digi-Key; Supplier Part Number 1: LTC2955ITS8-2#TRPBF-ND; Packing: Tape and Reel; RoHS: TRUE; Mounting Technology: Surface Mount; Code_JEDEC: MO-193; ComponentLink1Description: Manufacturer URL; ComponentLink1URL: http://www.linear.com/; ComponentLink2Description: Datasheet; ComponentLink2URL: http://cds.linear.com/docs/en/datasheet/2955f.pdf; ComponentLink3Description: Package Specification; ComponentLink3URL: http://cds.linear.com/docs/en/packaging/SOT_8_05-08-1637.pdf
footprint LT-TS8-8-TSOT-23_V (SOT23, 8-Leads, Body 2.9x1.75mm, Pitch 0.65mm)
pins: 1 ON (in) "Monitor Input. Connect this pin to an external resistive divider from the monitored voltage. This allows automatic system turn-on when the monitored voltage transitions high. For the DFN part, if the SEL pin is tied high, it (See Datasheet)", 2 ~{KILL} (in) "Kill Input. A low at K\I\L\L\ releases the enable output (EN/E\N\). This pin can be driven by the microprocessor or it can be used as a voltage monitor input. Tie to the system power supply or an external voltage of 1.2V~5V (See Datasheet)", 3 TMR (in) "Timer Pin. A capacitor to ground determines the additional time (5.2 seconds/uF) beyond the default 64ms that the pushbutton must be held low before immediately releasing the EN/E\N\ and I\N\T\ outputs. The turn-off debounce (See Datasheet)", 4 GND (power) "Device Ground.", 5 ~{PB} (in) "Pushbutton Input. This is an active low input with a 900k pull-up to an internal LDO. Connect one terminal of the pushbutton to this pin and connect the other terminal of the pushbutton to GND. The pin may be left open if (See Datasheet)", 6 VIN (power) "Power Supply Input. For > 20V applications, connect VIN to the power source through a 1k resistor and bypass VIN to GND with a 10nF low ESR capacitor.", 7 ~{EN} (oc) "Inverted Enable Output (LTC2955-2). E\N\ is an active low output to control the turn-on/off of the system power. It may drive a voltage regulator's active low enable input, or it may drive the gate of a P-channel MOSFET(See Datasheet)", 8 ~{INT} (oc) "Open Drain Interrupt Output. Connect this pin to the interrupt input of the system with a pull-up resistor to the system supply. The LTC2955 asserts the I\N\T\ pin low when it receives the turn-off command from the (See Datasheet)"

## LTC2960CDC-1#PBF
designator U?
36 V Nano-Current Two Input Voltage Monitor, 8-pin SON (DC8-8), 0 to 70 degC, Pb-Free; Manufacturer: Linear Technology; PartNumber: LTC2960CDC-1#PBF; Number of Supplies(#): 2; PackageVersion: Rev. A, 06/2010; PackageReference: DC8-8; PackageDescription: 8-Pin Plastic DFN, Body 2 x 2 mm, Pitch 0.45 mm; RoHS: TRUE; Mounting Technology: Surface Mount; ComponentLink1Description: Manufacturer URL; ComponentLink1URL: http://www.linear.com/; ComponentLink2Description: Datasheet; ComponentLink2URL: http://cds.linear.com/docs/en/datasheet/2960f.pdf; ComponentLink3Description: Package Specification; ComponentLink3URL: http://www.linear.com/docs/en/packaging/DFN_8_05-08-1719.pdf
footprint LT-DC8-8_V (SON, 8-Leads, Body 2x2mm, Pitch 0.45mm, Thermal Pad 1.37x0.64mm)
pins: 1 VCC (power) "Power Supply Input. When VCC falls below the falling UVLO threshold, the outputs are pulled low. If VCC falls below 1.2V the logic state of the outputs cannot be guaranteed. Bypass VCC with 0.1uF to GND. Use appropriate (See Datasheet)", 2 RT (in) "Reset Timeout Period Selection Input. Tie to GND for 15ms delay. Tie to VCC for 200ms delay.", 3 ~{RST} (oc) "Reset Output. Pulls low when monitored voltage falls below the reset (ADJ) threshold. R\S\T\ is released after monitored voltage exceeds the reset threshold plus 2.5% hysteresis and after reset timeout period has expired.", 4 OUT (oc) "Pulls low when monitored voltage falls below the IN+ threshold. Released when the IN+ voltage rises above its threshold by 5%.", 5 GND (power) "Device ground.", 6 ~{MR} (in) "Manual Reset Input. Attach a push-button switch or logic signal between this input and ground. A logic low on this input pulls R\S\T\ low. When the M\R\ input returns to logic high, R\S\T\ returns high after a reset timeout (See Datasheet)", 7 ADJ (in) "Reset Threshold Adjustment Input. Tie to resistive divider to configure desired reset threshold.", 8 IN+ (in) "IN+ Threshold Adjustment Input. Tie to resistive divider to configure required threshold. Tie to GND if unused.", 9 EP (power) "Exposed pad PCB GND"

## LTC2960CDC-1#TRMPBF
designator U?
36 V Nano-Current Two Input Voltage Monitor, 8-pin SON (DC8-8), 0 to 70 degC, Pb-Free, Mini Tape and Reel; Manufacturer: Linear Technology; PartNumber: LTC2960CDC-1#TRMPBF; Number of Supplies(#): 2; PackageVersion: Rev. A, 06/2010; PackageReference: DC8-8; PackageDescription: 8-Pin Plastic DFN, Body 2 x 2 mm, Pitch 0.45 mm; Supplier 1: Digi-Key; Supplier Part Number 1: LTC2960CDC-1#TRMPBF-ND; Supplier 2: Newark; Supplier Part Number 2: 94T1189; Packing: Mini Tape and Reel; RoHS: TRUE; Mounting Technology: Surface Mount; ComponentLink1Description: Manufacturer URL; ComponentLink1URL: http://www.linear.com/; ComponentLink2Description: Datasheet; ComponentLink2URL: http://cds.linear.com/docs/en/datasheet/2960f.pdf; ComponentLink3Description: Package Specification; ComponentLink3URL: http://www.linear.com/docs/en/packaging/DFN_8_05-08-1719.pdf
footprint LT-DC8-8_V (SON, 8-Leads, Body 2x2mm, Pitch 0.45mm, Thermal Pad 1.37x0.64mm)
pins: 1 VCC (power) "Power Supply Input. When VCC falls below the falling UVLO threshold, the outputs are pulled low. If VCC falls below 1.2V the logic state of the outputs cannot be guaranteed. Bypass VCC with 0.1uF to GND. Use appropriate (See Datasheet)", 2 RT (in) "Reset Timeout Period Selection Input. Tie to GND for 15ms delay. Tie to VCC for 200ms delay.", 3 ~{RST} (oc) "Reset Output. Pulls low when monitored voltage falls below the reset (ADJ) threshold. R\S\T\ is released after monitored voltage exceeds the reset threshold plus 2.5% hysteresis and after reset timeout period has expired.", 4 OUT (oc) "Pulls low when monitored voltage falls below the IN+ threshold. Released when the IN+ voltage rises above its threshold by 5%.", 5 GND (power) "Device ground.", 6 ~{MR} (in) "Manual Reset Input. Attach a push-button switch or logic signal between this input and ground. A logic low on this input pulls R\S\T\ low. When the M\R\ input returns to logic high, R\S\T\ returns high after a reset timeout (See Datasheet)", 7 ADJ (in) "Reset Threshold Adjustment Input. Tie to resistive divider to configure desired reset threshold.", 8 IN+ (in) "IN+ Threshold Adjustment Input. Tie to resistive divider to configure required threshold. Tie to GND if unused.", 9 EP (power) "Exposed pad PCB GND"